# Altium footprint library NFM18CC101R1C3D.PcbLib: 1 footprints
Each footprint in its own frame and in the unit in brackets; x right, y up, seen from the top. Pads: shape width x height; smd on the part's side, far side on the other; paste and mask are expansions set on the pad; w line width, h text height; cw(c..) or ccw(c..) is an arc to the next point about the centre after c.
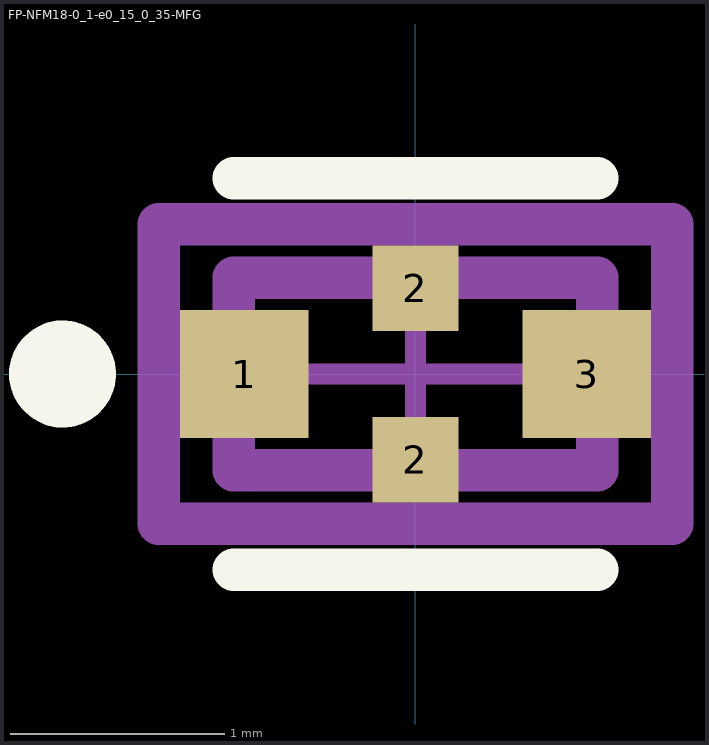
[diagram p0: the footprint, top view; thin cyan lines are the x and y axes]

## FP-NFM18-0_1-e0_15_0_35-MFG [mm]
pads (4):
  rect 0.6x0.6 smd paste+0 mask+0: 1(-0.8,0) 3(0.8,0)
  rect 0.4x0.4 smd paste+0 mask+0: 2(0,-0.4) 2(0,0.4)
Top Overlay:
  circle w0.25: c-1.65,0 r0.125
  lines w0.2: -0.85,-0.915 0.85,-0.915 ; -0.85,0.915 0.85,0.915
Top Assembly:
  lines w0.2: -1.2,-0.7 -1.2,0.7 1.2,0.7 1.2,-0.7 -1.2,-0.7
  text ".Designator" at 0,0.188 h1
Top 3D Body:
  lines w0.2: -0.85,-0.45 -0.85,0.45 0.85,0.45 0.85,-0.45 -0.85,-0.45
Top Courtyard:
  lines w0.2: -1.2,-0.7 -1.2,0.7 1.2,0.7 1.2,-0.7 -1.2,-0.7
Top Component Center:
  lines w0.1: -0.5,0 0.5,0 ; 0,-0.5 0,0.5
3D body "Cap_Murata_NFM18PC474R0J3D_eec.STEP": height 0.25, standoff 0, extent -1.2,-0.7 1.2,0.7